# Altium footprint library PMEG3030BEP,115.PcbLib: 3 footprints
Each footprint in its own frame and in the unit in brackets; x right, y up, seen from the top. Pads: shape width x height; smd on the part's side, far side on the other; paste and mask are expansions set on the pad; w line width, h text height; cw(c..) or ccw(c..) is an arc to the next point about the centre after c.
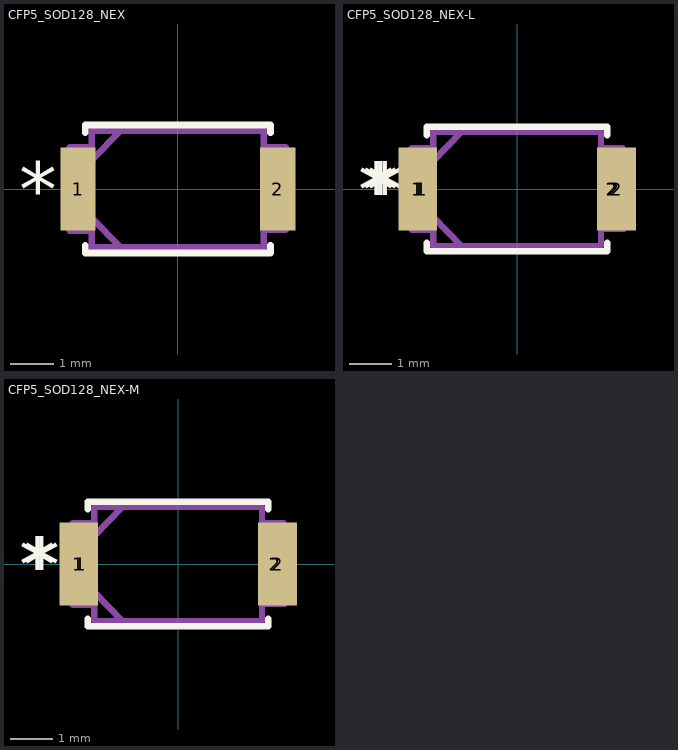
[diagram p0: the footprints below, top view; thin cyan lines are the x and y axes]

## CFP5_SOD128_NEX [mil]
pads (2):
  rect 32x75 smd: 1(-90.5,0) 2(90.5,0)
Top Overlay:
  lines w6: -84,-51 -84,-58 84,-58 84,-51 ; -84,51 -84,58 84,58 84,51
  text "*" at -144,-25 h50
Mechanical 13:
  lines w6: -52,-53 -78,-26 ; -52,53 -78,26 ; -78,-26 -78,-38 -98,-38 -98,38 -78,38 -78,26 ; -78,-26 -78,26 ; -78,-53 78,-53 78,53 -78,53 -78,-53 ; 78,38 79,-37 98,-37 98,38 78,38
  text "*" at -141,-25 h50
3D body "step_temp.STEP": height 43.31, standoff 0, extent -92.52,-49.21 92.52,49.21

## CFP5_SOD128_NEX-L [mil]
pads (6):
  rect 36x77 smd: 1(-92.5,0) 2(92.5,0)
  rect 32x75 smd: 1(-90.5,0) 2(90.5,0)
  rect 28x73 smd: 1(-88.5,0) 2(88.5,0)
Top Overlay:
  lines w6: -84,-52 -84,-58 ; -84,-51 -84,-58 ; -84,-50 -84,-58 ; -84,50 -84,58 ; -84,51 -84,58 ; -84,52 -84,58 ; 84,-52 84,-58 ; 84,-51 84,-58 ; 84,-50 84,-58 ; 84,50 84,58 ; 84,51 84,58 ; 84,52 84,58 ; -84,-58 84,-58 ; -84,-58 84,-58 ; -84,-58 84,-58 ; -84,58 84,58 ; -84,58 84,58 ; -84,58 84,58
  text "*" at -144,-25 h50
  text "*" at -148,-25 h50
  text "*" at -140,-25 h50
Mechanical 13:
  lines w6: -98,-38 -98,38 ; -98,-38 -78,-38 ; -98,-38 -98,38 ; -98,-38 -78,-38 ; -98,-38 -98,38 ; -98,-38 -78,-38 ; -98,38 -78,38 ; -98,38 -78,38 ; -98,38 -78,38 ; -78,-53 78,-53 ; -78,-53 -78,53 ; -78,-53 78,-53 ; -78,-53 -78,53 ; -78,-53 78,-53 ; -78,-53 -78,53 ; -78,-38 -78,-26 ; -78,-38 -78,-26 ; -78,-38 -78,-26 ; -78,-26 -78,26 ; -78,-26 -52,-53 ; -78,-26 -78,26 ; -78,-26 -52,-53 ; -78,-26 -78,26 ; -78,-26 -52,-53 ; -78,26 -78,38 ; -78,26 -52,53 ; -78,26 -78,38 ; -78,26 -52,53 ; -78,26 -78,38 ; -78,26 -52,53 ; -78,53 78,53 ; -78,53 78,53 ; -78,53 78,53 ; 78,-53 78,53 ; 78,-53 78,53 ; 78,-53 78,53 ; 78,38 79,-37 ; 78,38 98,38 ; 78,38 79,-37 ; 78,38 98,38 ; 78,38 79,-37 ; 78,38 98,38 ; 79,-37 98,-37 98,38 ; 79,-37 99,-37 ; 79,-37 99,-37 ; 98,38 99,-37 ; 98,38 99,-37
  text "*" at -141,-25 h50
  text "*" at -91,-25 h50
  text "*" at -91,-25 h50
3D body "step_temp.STEP": height 43.31, standoff 0, extent -92.52,-49.21 92.52,49.21
3D body "step_temp.STEP": height 43.31, standoff 0, extent -92.52,-49.21 92.52,49.21
3D body "step_temp.STEP": height 43.31, standoff 0, extent -92.52,-49.21 92.52,49.21

## CFP5_SOD128_NEX-M [mil]
pads (4):
  rect 36x77 smd: 1(-92.5,0) 2(92.5,0)
  rect 32x75 smd: 1(-90.5,0) 2(90.5,0)
Top Overlay:
  lines w6: -84,-52 -84,-58 ; -84,-51 -84,-58 ; -84,51 -84,58 ; -84,52 -84,58 ; 84,-52 84,-58 ; 84,-51 84,-58 ; 84,51 84,58 ; 84,52 84,58 ; -84,-58 84,-58 ; -84,-58 84,-58 ; -84,58 84,58 ; -84,58 84,58
  text "*" at -148,-25 h50
  text "*" at -144,-25 h50
Mechanical 13:
  lines w6: -98,-38 -78,-38 ; -98,-38 -98,38 ; -98,-38 -78,-38 ; -98,-38 -98,38 ; -98,38 -78,38 ; -98,38 -78,38 ; -78,-53 -78,53 ; -78,-53 78,-53 ; -78,-53 -78,53 ; -78,-53 78,-53 ; -78,-38 -78,-26 ; -78,-38 -78,-26 ; -78,-26 -52,-53 -78,-26 ; -78,-26 -78,26 ; -78,-26 -78,26 ; -78,26 -52,53 -78,26 ; -78,26 -78,38 ; -78,26 -78,38 ; -78,53 78,53 ; -78,53 78,53 ; 78,-53 78,53 ; 78,-53 78,53 ; 78,38 98,38 ; 78,38 79,-37 ; 78,38 98,38 ; 78,38 79,-37 ; 79,-37 99,-37 98,38 ; 79,-37 98,-37 98,38
  text "*" at -91,-25 h50
  text "*" at -141,-25 h50
3D body "step_temp.STEP": height 43.31, standoff 0, extent -92.52,-49.21 92.52,49.21
3D body "step_temp.STEP": height 43.31, standoff 0, extent -92.52,-49.21 92.52,49.21